# EAGLE library part RXX-100_150B (library noah)
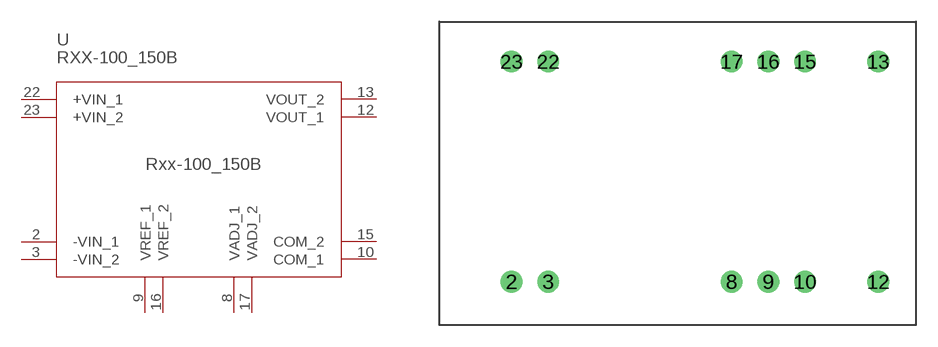
[diagram p33: symbol with the pads of RXX-B; footprint RXX-B]

Designator prefix -

## RXX-100_150B  [RXX-B]
2  -VIN_1
3  -VIN_2
8  VADJ_1
9  VREF_1
10  COM_1
12  VOUT_1
13  VOUT_2
15  COM_2
16  VREF_2
17  VADJ_2
22  +VIN_1
23  +VIN_2

## Footprint RXX-B (pad centres in mm)
drill 1: 2 0,0; 3 2.54,0; 8 15.24,0; 9 17.78,0; 10 20.32,0; 12 25.4,0; 13 25.4,15.24; 15 20.32,15.24; 16 17.78,15.24; 17 15.24,15.24; 22 2.54,15.24; 23 0,15.24